# EAGLE library part SHERLOCK-8P (library RS-molex-sherlock)
8-pin Molex SherlockTM connector system Verticle 35362-08** Right Angle 35363-086** Mates with: 35507-0800 header 50212-8100 pins Use 63819-0500 crimper, and 57105-6000 pin extraction tool.
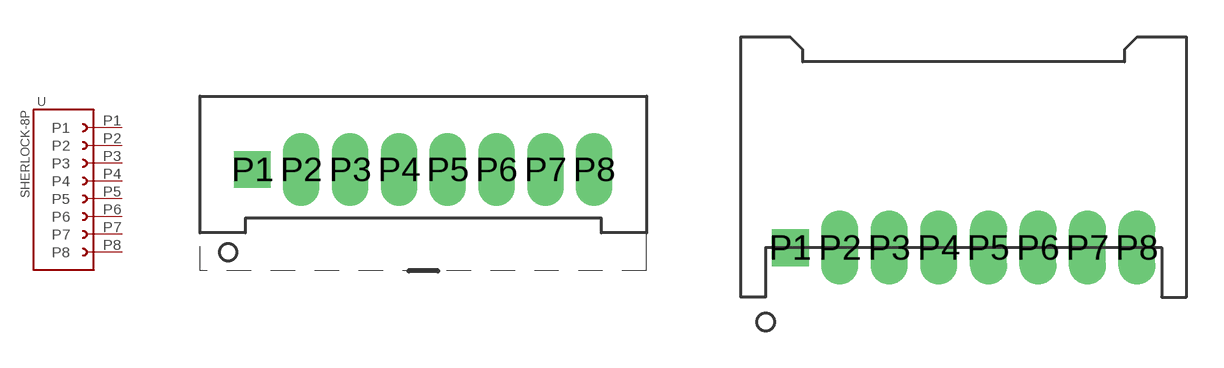
[diagram p2: symbol with the pads of 35362-08**; footprints 35362-08**, 35363-086*]

Designator prefix -

## SHERLOCK-8PVERTICAL  [35362-08**]
P1  P1
P2  P2
P3  P3
P4  P4
P5  P5
P6  P6
P7  P7
P8  P8

## SHERLOCK-8PRIGHT-ANGLE  [35363-086*]
Pads as for 35362-08**

## Footprint 35362-08** (pad centres in mm)
drill 0.8 pad 1.5 square: P1 -7,0
drill 0.8 pad 1.5 long: P2 -5,0; P3 -3,0; P4 -1,0; P5 1,0; P6 3,0; P7 5,0; P8 7,0

## Footprint 35363-086* (pad centres in mm)
drill 0.8 pad 1.5 square: P1 -7,0
drill 0.8 pad 1.5 long: P2 -5,0; P3 -3,0; P4 -1,0; P5 1,0; P6 3,0; P7 5,0; P8 7,0